# Altium integrated library TI Power Management Supervisor and Reset IC.IntLib: 819 symbols (part 4 of 30)
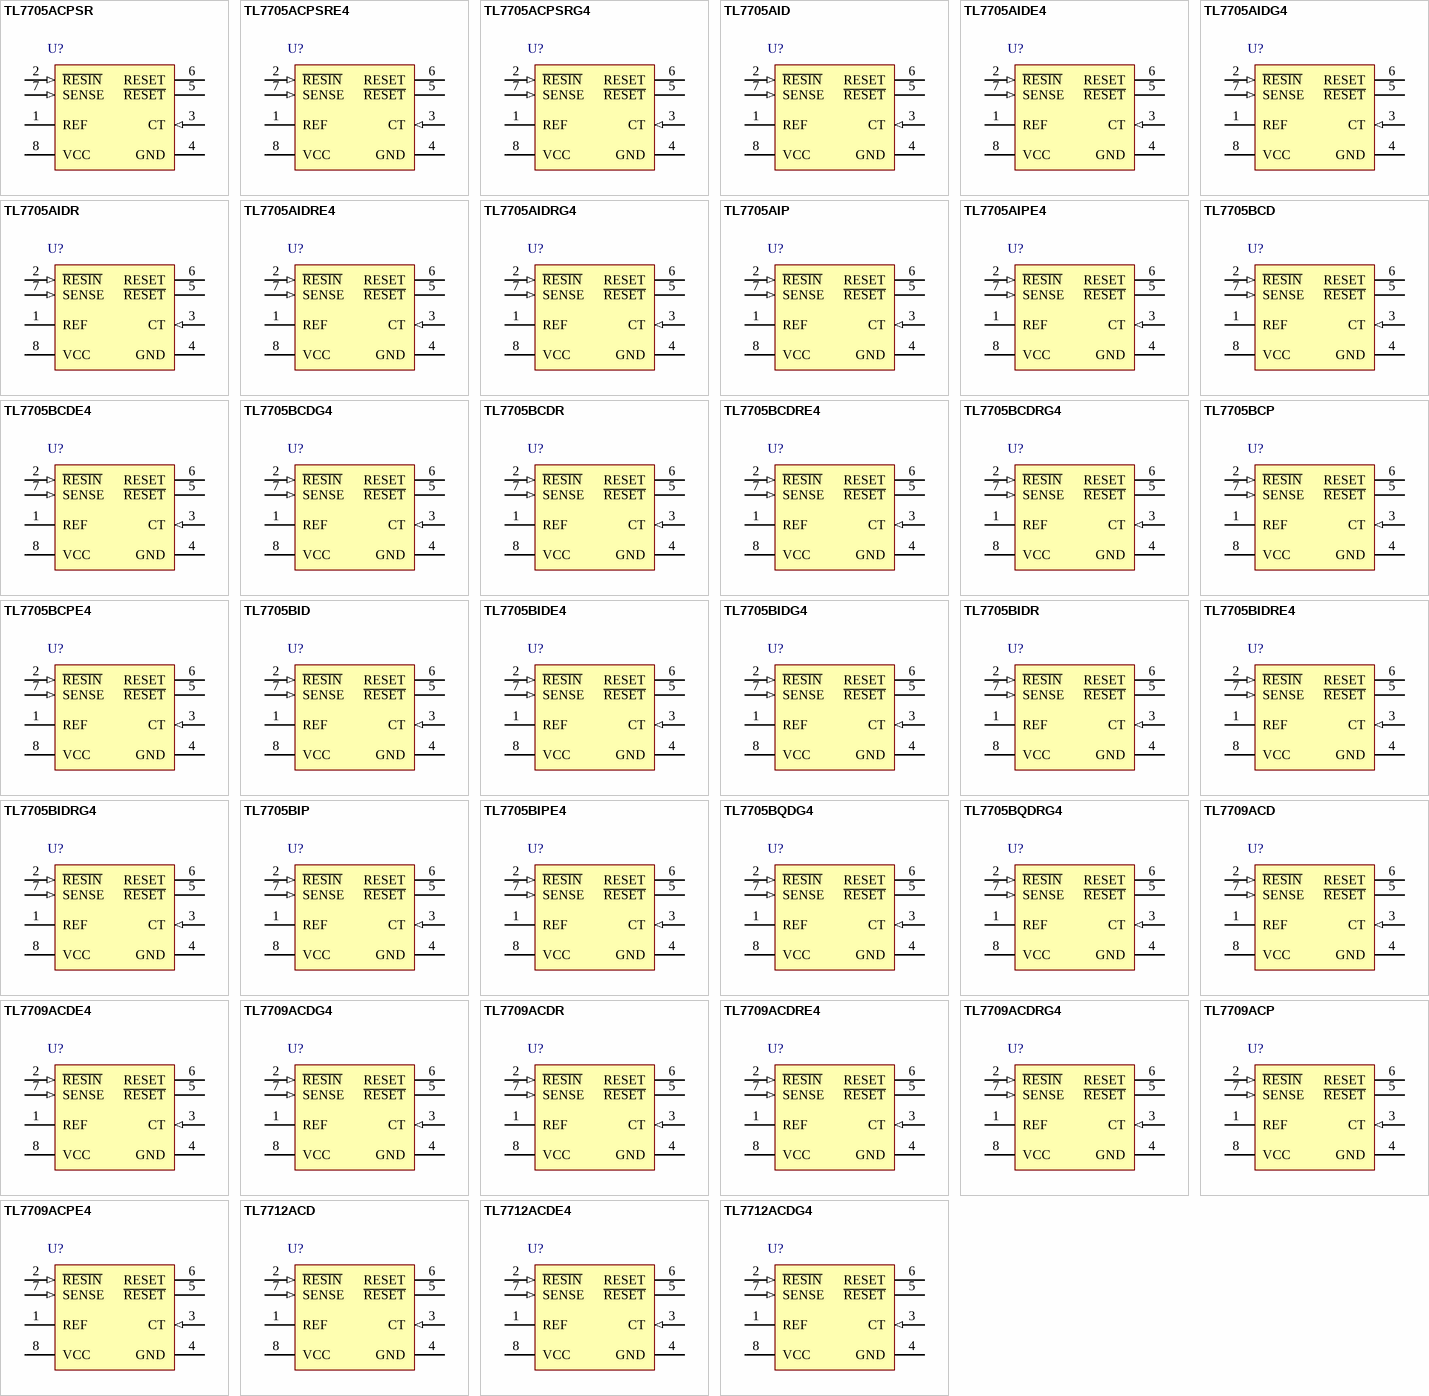
[diagram p24: symbols TL7705ACPSR to TL7712ACDG4]

## TL7705BIDR
designator U?
Single Supply Voltage Supervisor for 5 V Systems with Programmable Time Delay, 1 Supply Monitored, -40 to 85 degC, 8-pin SOIC (D), Green (RoHS & no Sb/Br); Manufacturer: Texas Instruments; PartNumber: TL7705BIDR; # of supplies monitored: 1; Iq(Typ)(uA): 1800; Output Driver Type / Reset Output: Active-low, Open-drain, Active-high, Open-drain; Rating: Military; Reset Threshold Accuracy(%): 2.2; SubFamily: Supervisor and Reset IC; Threshold Voltage 1 (typ)(Typ)(V): 4.55; VCC(Max)(V): 18; VCC(Min)(V): 3.6; DatasheetVersion: SLVS037M; PackageVersion: revM, Jun-2011; PackageReference: D8; PackageDescription: 8-Pin Plastic Small Outline Integrated Circuit, 4.9 x 3.9 mm, Pitch 1.27 mm Pitch; Supplier 1: Digi-Key; Supplier Part Number 1: 296-15020-2-ND; Supplier 2: Digi-Key; Supplier Part Number 2: 296-15020-1-ND; Supplier 3: Digi-Key; Supplier Part Number 3: 296-15020-6-ND; Supplier 4: Newark; Supplier Part Number 4: 76C9356; Supplier 5: Mouser; Supplier Part Number 5: 595-TL7705BIDR; Time Delay(ms): Programmable; Mounting Technology: Surface Mount; Code_JEDEC: MS-012AA; ComponentLink1Description: Datasheet; ComponentLink1URL: http://www.ti.com/general/docs/lit/getliterature.tsp?genericPartNumber=TL7705B&fileType=pdf
footprint D8_N (SOIC, 8-Leads, Body 4.9x3.9mm, Pitch 1.27mm, IPC Medium Density)
footprint D8_L (SOIC, 8-Leads, Body 4.9x3.9mm, Pitch 1.27mm, IPC High Density)
footprint D8_M (SOIC, 8-Leads, Body 4.9x3.9mm, Pitch 1.27mm, IPC Low Density)
pins: 1 REF, 2 ~{RESIN} (in), 3 CT (in), 4 GND (power), 5 ~{RESET} (oc), 6 RESET (oe), 7 SENSE (in), 8 VCC (power)

## TL7705BIDRE4
designator U?
Single Supply Voltage Supervisor for 5 V Systems with Programmable Time Delay, 1 Supply Monitored, -40 to 85 degC, 8-pin SOIC (D), Green (RoHS & no Sb/Br); Manufacturer: Texas Instruments; PartNumber: TL7705BIDRE4; # of supplies monitored: 1; Iq(Typ)(uA): 1800; Output Driver Type / Reset Output: Active-low, Open-drain, Active-high, Open-drain; Rating: Military; Reset Threshold Accuracy(%): 2.2; SubFamily: Supervisor and Reset IC; Threshold Voltage 1 (typ)(Typ)(V): 4.55; VCC(Max)(V): 18; VCC(Min)(V): 3.6; DatasheetVersion: SLVS037M; PackageVersion: revM, Jun-2011; PackageReference: D8; PackageDescription: 8-Pin Plastic Small Outline Integrated Circuit, 4.9 x 3.9 mm, Pitch 1.27 mm Pitch; Supplier 1: Digi-Key; Supplier Part Number 1: TL7705BIDRE4-ND; Supplier 2: Newark; Supplier Part Number 2: 37K4590; Supplier 3: Mouser; Supplier Part Number 3: 595-TL7705BIDRE4; Time Delay(ms): Programmable; Mounting Technology: Surface Mount; Code_JEDEC: MS-012AA; ComponentLink1Description: Datasheet; ComponentLink1URL: http://www.ti.com/general/docs/lit/getliterature.tsp?genericPartNumber=TL7705B&fileType=pdf
footprint D8_N (SOIC, 8-Leads, Body 4.9x3.9mm, Pitch 1.27mm, IPC Medium Density)
footprint D8_L (SOIC, 8-Leads, Body 4.9x3.9mm, Pitch 1.27mm, IPC High Density)
footprint D8_M (SOIC, 8-Leads, Body 4.9x3.9mm, Pitch 1.27mm, IPC Low Density)
pins: 1 REF, 2 ~{RESIN} (in), 3 CT (in), 4 GND (power), 5 ~{RESET} (oc), 6 RESET (oe), 7 SENSE (in), 8 VCC (power)

## TL7705BIDRG4
designator U?
Single Supply Voltage Supervisor for 5 V Systems with Programmable Time Delay, 1 Supply Monitored, -40 to 85 degC, 8-pin SOIC (D), Green (RoHS & no Sb/Br); Manufacturer: Texas Instruments; PartNumber: TL7705BIDRG4; # of supplies monitored: 1; Iq(Typ)(uA): 1800; Output Driver Type / Reset Output: Active-low, Open-drain, Active-high, Open-drain; Rating: Military; Reset Threshold Accuracy(%): 2.2; SubFamily: Supervisor and Reset IC; Threshold Voltage 1 (typ)(Typ)(V): 4.55; VCC(Max)(V): 18; VCC(Min)(V): 3.6; DatasheetVersion: SLVS037M; PackageVersion: revM, Jun-2011; PackageReference: D8; PackageDescription: 8-Pin Plastic Small Outline Integrated Circuit, 4.9 x 3.9 mm, Pitch 1.27 mm Pitch; Supplier 1: Digi-Key; Supplier Part Number 1: TL7705BIDRG4-ND; Supplier 2: Newark; Supplier Part Number 2: 41M5799; Supplier 3: Mouser; Supplier Part Number 3: 595-TL7705BIDRG4; Time Delay(ms): Programmable; Mounting Technology: Surface Mount; Code_JEDEC: MS-012AA; ComponentLink1Description: Datasheet; ComponentLink1URL: http://www.ti.com/general/docs/lit/getliterature.tsp?genericPartNumber=TL7705B&fileType=pdf
footprint D8_N (SOIC, 8-Leads, Body 4.9x3.9mm, Pitch 1.27mm, IPC Medium Density)
footprint D8_L (SOIC, 8-Leads, Body 4.9x3.9mm, Pitch 1.27mm, IPC High Density)
footprint D8_M (SOIC, 8-Leads, Body 4.9x3.9mm, Pitch 1.27mm, IPC Low Density)
pins: 1 REF, 2 ~{RESIN} (in), 3 CT (in), 4 GND (power), 5 ~{RESET} (oc), 6 RESET (oe), 7 SENSE (in), 8 VCC (power)

## TL7705BIP
designator U?
Single Supply Voltage Supervisor for 5 V Systems with Programmable Time Delay, 1 Supply Monitored, -40 to 85 degC, 8-pin PDIP (P), Pb-Free (RoHS); Manufacturer: Texas Instruments; PartNumber: TL7705BIP; # of supplies monitored: 1; Iq(Typ)(uA): 1800; Output Driver Type / Reset Output: Active-low, Open-drain, Active-high, Open-drain; Rating: Military; Reset Threshold Accuracy(%): 2.2; SubFamily: Supervisor and Reset IC; Threshold Voltage 1 (typ)(Typ)(V): 4.55; VCC(Max)(V): 18; VCC(Min)(V): 3.6; DatasheetVersion: SLVS037M; PackageVersion: revE, Apr-2010; PackageReference: P8; PackageDescription: 8-Pin Plastic Dual-In-Line Package, Row Spacing 7.62 mm, Pitch 2.54 mm; Supplier 1: Digi-Key; Supplier Part Number 1: 296-3244-5-ND; Supplier 2: Newark; Supplier Part Number 2: 52F2764; Supplier 3: Mouser; Supplier Part Number 3: 595-TL7705BIP; Time Delay(ms): Programmable; Mounting Technology: Through Hole; Code_JEDEC: MS-001-BA; ComponentLink1Description: Datasheet; ComponentLink1URL: http://www.ti.com/general/docs/lit/getliterature.tsp?genericPartNumber=TL7705B&fileType=pdf
footprint P8 (DIP, 8-Leads, Row Spacing 7.62mm, Pitch 2.54mm, Body 9.6x6.4mm)
pins: 1 REF, 2 ~{RESIN} (in), 3 CT (in), 4 GND (power), 5 ~{RESET} (oc), 6 RESET (oe), 7 SENSE (in), 8 VCC (power)

## TL7705BIPE4
designator U?
Single Supply Voltage Supervisor for 5 V Systems with Programmable Time Delay, 1 Supply Monitored, -40 to 85 degC, 8-pin PDIP (P), Pb-Free (RoHS); Manufacturer: Texas Instruments; PartNumber: TL7705BIPE4; # of supplies monitored: 1; Iq(Typ)(uA): 1800; Output Driver Type / Reset Output: Active-low, Open-drain, Active-high, Open-drain; Rating: Military; Reset Threshold Accuracy(%): 2.2; SubFamily: Supervisor and Reset IC; Threshold Voltage 1 (typ)(Typ)(V): 4.55; VCC(Max)(V): 18; VCC(Min)(V): 3.6; DatasheetVersion: SLVS037M; PackageVersion: revE, Apr-2010; PackageReference: P8; PackageDescription: 8-Pin Plastic Dual-In-Line Package, Row Spacing 7.62 mm, Pitch 2.54 mm; Supplier 1: Digi-Key; Supplier Part Number 1: TL7705BIPE4-ND; Supplier 2: Newark; Supplier Part Number 2: 37K4591; Supplier 3: Mouser; Supplier Part Number 3: 595-TL7705BIPE4; Time Delay(ms): Programmable; Mounting Technology: Through Hole; Code_JEDEC: MS-001-BA; ComponentLink1Description: Datasheet; ComponentLink1URL: http://www.ti.com/general/docs/lit/getliterature.tsp?genericPartNumber=TL7705B&fileType=pdf
footprint P8 (DIP, 8-Leads, Row Spacing 7.62mm, Pitch 2.54mm, Body 9.6x6.4mm)
pins: 1 REF, 2 ~{RESIN} (in), 3 CT (in), 4 GND (power), 5 ~{RESET} (oc), 6 RESET (oe), 7 SENSE (in), 8 VCC (power)

## TL7705BQDG4
designator U?
Single Supply Voltage Supervisor for 5 V Systems with Programmable Time Delay, 1 Supply Monitored, 8-pin SOIC (D), Green (RoHS & no Sb/Br); Manufacturer: Texas Instruments; PartNumber: TL7705BQDG4; # of supplies monitored: 1; Iq(Typ)(uA): 1800; Output Driver Type / Reset Output: Active-low, Open-drain, Active-high, Open-drain; Rating: Military; Reset Threshold Accuracy(%): 2.2; SubFamily: Supervisor and Reset IC; Threshold Voltage 1 (typ)(Typ)(V): 4.55; VCC(Max)(V): 18; VCC(Min)(V): 3.6; DatasheetVersion: SLVS037M; PackageVersion: revM, Jun-2011; PackageReference: D8; PackageDescription: 8-Pin Plastic Small Outline Integrated Circuit, 4.9 x 3.9 mm, Pitch 1.27 mm Pitch; Supplier 1: Digi-Key; Supplier Part Number 1: TL7705BQDG4-ND; Supplier 2: Newark; Supplier Part Number 2: 54M7385; Supplier 3: Mouser; Supplier Part Number 3: 595-TL7705BQDG4; Time Delay(ms): Programmable; Mounting Technology: Surface Mount; Code_JEDEC: MS-012AA; ComponentLink1Description: Datasheet; ComponentLink1URL: http://www.ti.com/general/docs/lit/getliterature.tsp?genericPartNumber=TL7705B&fileType=pdf
footprint D8_N (SOIC, 8-Leads, Body 4.9x3.9mm, Pitch 1.27mm, IPC Medium Density)
footprint D8_L (SOIC, 8-Leads, Body 4.9x3.9mm, Pitch 1.27mm, IPC High Density)
footprint D8_M (SOIC, 8-Leads, Body 4.9x3.9mm, Pitch 1.27mm, IPC Low Density)
pins: 1 REF, 2 ~{RESIN} (in), 3 CT (in), 4 GND (power), 5 ~{RESET} (oc), 6 RESET (oe), 7 SENSE (in), 8 VCC (power)

## TL7705BQDRG4
designator U?
Single Supply Voltage Supervisor for 5 V Systems with Programmable Time Delay, 1 Supply Monitored, 8-pin SOIC (D), Green (RoHS & no Sb/Br); Manufacturer: Texas Instruments; PartNumber: TL7705BQDRG4; # of supplies monitored: 1; Iq(Typ)(uA): 1800; Output Driver Type / Reset Output: Active-low, Open-drain, Active-high, Open-drain; Rating: Military; Reset Threshold Accuracy(%): 2.2; SubFamily: Supervisor and Reset IC; Threshold Voltage 1 (typ)(Typ)(V): 4.55; VCC(Max)(V): 18; VCC(Min)(V): 3.6; DatasheetVersion: SLVS037M; PackageVersion: revM, Jun-2011; PackageReference: D8; PackageDescription: 8-Pin Plastic Small Outline Integrated Circuit, 4.9 x 3.9 mm, Pitch 1.27 mm Pitch; Supplier 1: Digi-Key; Supplier Part Number 1: TL7705BQDRG4-ND; Supplier 2: Newark; Supplier Part Number 2: 54M7386; Supplier 3: Mouser; Supplier Part Number 3: 595-TL7705BQDRG4; Time Delay(ms): Programmable; Mounting Technology: Surface Mount; Code_JEDEC: MS-012AA; ComponentLink1Description: Datasheet; ComponentLink1URL: http://www.ti.com/general/docs/lit/getliterature.tsp?genericPartNumber=TL7705B&fileType=pdf
footprint D8_N (SOIC, 8-Leads, Body 4.9x3.9mm, Pitch 1.27mm, IPC Medium Density)
footprint D8_L (SOIC, 8-Leads, Body 4.9x3.9mm, Pitch 1.27mm, IPC High Density)
footprint D8_M (SOIC, 8-Leads, Body 4.9x3.9mm, Pitch 1.27mm, IPC Low Density)
pins: 1 REF, 2 ~{RESIN} (in), 3 CT (in), 4 GND (power), 5 ~{RESET} (oc), 6 RESET (oe), 7 SENSE (in), 8 VCC (power)

## TL7709ACD
designator U?
Single Supply Voltage Supervisor for 9 V Systems with Programmable Time Delay, 1 Supply Monitored, 0 to 70 degC, 8-pin SOIC (D), Green (RoHS & no Sb/Br); Manufacturer: Texas Instruments; PartNumber: TL7709ACD; # of supplies monitored: 1; Iq(Typ)(uA): 1800; Output Driver Type / Reset Output: Active-low, Open-drain, Active-high, Open-drain; Rating: Catalog; Reset Threshold Accuracy(%): 1.3; SubFamily: Supervisor and Reset IC; Threshold Voltage 1 (typ)(Typ)(V): 7.6; VCC(Max)(V): 18; VCC(Min)(V): 3.5; DatasheetVersion: SLVS028I; PackageVersion: revM, Jun-2011; PackageReference: D8; PackageDescription: 8-Pin Plastic Small Outline Integrated Circuit, 4.9 x 3.9 mm, Pitch 1.27 mm Pitch; Supplier 1: Digi-Key; Supplier Part Number 1: 296-3247-5-ND; Supplier 2: Newark; Supplier Part Number 2: 76C9358; Supplier 3: Mouser; Supplier Part Number 3: 595-TL7709ACD; Time Delay(ms): Programmable; Mounting Technology: Surface Mount; Code_JEDEC: MS-012AA; ComponentLink1Description: Datasheet; ComponentLink1URL: http://www.ti.com/general/docs/lit/getliterature.tsp?genericPartNumber=TL7709A&fileType=pdf
footprint D8_N (SOIC, 8-Leads, Body 4.9x3.9mm, Pitch 1.27mm, IPC Medium Density)
footprint D8_L (SOIC, 8-Leads, Body 4.9x3.9mm, Pitch 1.27mm, IPC High Density)
footprint D8_M (SOIC, 8-Leads, Body 4.9x3.9mm, Pitch 1.27mm, IPC Low Density)
pins: 1 REF, 2 ~{RESIN} (in), 3 CT (in), 4 GND (power), 5 ~{RESET} (oc), 6 RESET (oe), 7 SENSE (in), 8 VCC (power)

## TL7709ACDE4
designator U?
Single Supply Voltage Supervisor for 9 V Systems with Programmable Time Delay, 1 Supply Monitored, 0 to 70 degC, 8-pin SOIC (D), Green (RoHS & no Sb/Br); Manufacturer: Texas Instruments; PartNumber: TL7709ACDE4; # of supplies monitored: 1; Iq(Typ)(uA): 1800; Output Driver Type / Reset Output: Active-low, Open-drain, Active-high, Open-drain; Rating: Catalog; Reset Threshold Accuracy(%): 1.3; SubFamily: Supervisor and Reset IC; Threshold Voltage 1 (typ)(Typ)(V): 7.6; VCC(Max)(V): 18; VCC(Min)(V): 3.5; DatasheetVersion: SLVS028I; PackageVersion: revM, Jun-2011; PackageReference: D8; PackageDescription: 8-Pin Plastic Small Outline Integrated Circuit, 4.9 x 3.9 mm, Pitch 1.27 mm Pitch; Supplier 1: Digi-Key; Supplier Part Number 1: TL7709ACDE4-ND; Supplier 2: Newark; Supplier Part Number 2: 37K4592; Supplier 3: Mouser; Supplier Part Number 3: 595-TL7709ACDE4; Time Delay(ms): Programmable; Mounting Technology: Surface Mount; Code_JEDEC: MS-012AA; ComponentLink1Description: Datasheet; ComponentLink1URL: http://www.ti.com/general/docs/lit/getliterature.tsp?genericPartNumber=TL7709A&fileType=pdf
footprint D8_N (SOIC, 8-Leads, Body 4.9x3.9mm, Pitch 1.27mm, IPC Medium Density)
footprint D8_L (SOIC, 8-Leads, Body 4.9x3.9mm, Pitch 1.27mm, IPC High Density)
footprint D8_M (SOIC, 8-Leads, Body 4.9x3.9mm, Pitch 1.27mm, IPC Low Density)
pins: 1 REF, 2 ~{RESIN} (in), 3 CT (in), 4 GND (power), 5 ~{RESET} (oc), 6 RESET (oe), 7 SENSE (in), 8 VCC (power)

## TL7709ACDG4
designator U?
Single Supply Voltage Supervisor for 9 V Systems with Programmable Time Delay, 1 Supply Monitored, 0 to 70 degC, 8-pin SOIC (D), Green (RoHS & no Sb/Br); Manufacturer: Texas Instruments; PartNumber: TL7709ACDG4; # of supplies monitored: 1; Iq(Typ)(uA): 1800; Output Driver Type / Reset Output: Active-low, Open-drain, Active-high, Open-drain; Rating: Catalog; Reset Threshold Accuracy(%): 1.3; SubFamily: Supervisor and Reset IC; Threshold Voltage 1 (typ)(Typ)(V): 7.6; VCC(Max)(V): 18; VCC(Min)(V): 3.5; DatasheetVersion: SLVS028I; PackageVersion: revM, Jun-2011; PackageReference: D8; PackageDescription: 8-Pin Plastic Small Outline Integrated Circuit, 4.9 x 3.9 mm, Pitch 1.27 mm Pitch; Supplier 1: Digi-Key; Supplier Part Number 1: TL7709ACDG4-ND; Supplier 2: Newark; Supplier Part Number 2: 41M5800; Supplier 3: Mouser; Supplier Part Number 3: 595-TL7709ACDG4; Time Delay(ms): Programmable; Mounting Technology: Surface Mount; Code_JEDEC: MS-012AA; ComponentLink1Description: Datasheet; ComponentLink1URL: http://www.ti.com/general/docs/lit/getliterature.tsp?genericPartNumber=TL7709A&fileType=pdf
footprint D8_N (SOIC, 8-Leads, Body 4.9x3.9mm, Pitch 1.27mm, IPC Medium Density)
footprint D8_L (SOIC, 8-Leads, Body 4.9x3.9mm, Pitch 1.27mm, IPC High Density)
footprint D8_M (SOIC, 8-Leads, Body 4.9x3.9mm, Pitch 1.27mm, IPC Low Density)
pins: 1 REF, 2 ~{RESIN} (in), 3 CT (in), 4 GND (power), 5 ~{RESET} (oc), 6 RESET (oe), 7 SENSE (in), 8 VCC (power)

## TL7709ACDR
designator U?
Single Supply Voltage Supervisor for 9 V Systems with Programmable Time Delay, 1 Supply Monitored, 0 to 70 degC, 8-pin SOIC (D), Green (RoHS & no Sb/Br); Manufacturer: Texas Instruments; PartNumber: TL7709ACDR; # of supplies monitored: 1; Iq(Typ)(uA): 1800; Output Driver Type / Reset Output: Active-low, Open-drain, Active-high, Open-drain; Rating: Catalog; Reset Threshold Accuracy(%): 1.3; SubFamily: Supervisor and Reset IC; Threshold Voltage 1 (typ)(Typ)(V): 7.6; VCC(Max)(V): 18; VCC(Min)(V): 3.5; DatasheetVersion: SLVS028I; PackageVersion: revM, Jun-2011; PackageReference: D8; PackageDescription: 8-Pin Plastic Small Outline Integrated Circuit, 4.9 x 3.9 mm, Pitch 1.27 mm Pitch; Supplier 1: Digi-Key; Supplier Part Number 1: TL7709ACDR-ND; Supplier 2: Newark; Supplier Part Number 2: 76C9359; Supplier 3: Mouser; Supplier Part Number 3: 595-TL7709ACDR; Time Delay(ms): Programmable; Mounting Technology: Surface Mount; Code_JEDEC: MS-012AA; ComponentLink1Description: Datasheet; ComponentLink1URL: http://www.ti.com/general/docs/lit/getliterature.tsp?genericPartNumber=TL7709A&fileType=pdf
footprint D8_N (SOIC, 8-Leads, Body 4.9x3.9mm, Pitch 1.27mm, IPC Medium Density)
footprint D8_L (SOIC, 8-Leads, Body 4.9x3.9mm, Pitch 1.27mm, IPC High Density)
footprint D8_M (SOIC, 8-Leads, Body 4.9x3.9mm, Pitch 1.27mm, IPC Low Density)
pins: 1 REF, 2 ~{RESIN} (in), 3 CT (in), 4 GND (power), 5 ~{RESET} (oc), 6 RESET (oe), 7 SENSE (in), 8 VCC (power)

## TL7709ACDRE4
designator U?
Single Supply Voltage Supervisor for 9 V Systems with Programmable Time Delay, 1 Supply Monitored, 0 to 70 degC, 8-pin SOIC (D), Green (RoHS & no Sb/Br); Manufacturer: Texas Instruments; PartNumber: TL7709ACDRE4; # of supplies monitored: 1; Iq(Typ)(uA): 1800; Output Driver Type / Reset Output: Active-low, Open-drain, Active-high, Open-drain; Rating: Catalog; Reset Threshold Accuracy(%): 1.3; SubFamily: Supervisor and Reset IC; Threshold Voltage 1 (typ)(Typ)(V): 7.6; VCC(Max)(V): 18; VCC(Min)(V): 3.5; DatasheetVersion: SLVS028I; PackageVersion: revM, Jun-2011; PackageReference: D8; PackageDescription: 8-Pin Plastic Small Outline Integrated Circuit, 4.9 x 3.9 mm, Pitch 1.27 mm Pitch; Supplier 1: Digi-Key; Supplier Part Number 1: TL7709ACDRE4-ND; Supplier 2: Newark; Supplier Part Number 2: 37K4593; Supplier 3: Mouser; Supplier Part Number 3: 595-TL7709ACDRE4; Time Delay(ms): Programmable; Mounting Technology: Surface Mount; Code_JEDEC: MS-012AA; ComponentLink1Description: Datasheet; ComponentLink1URL: http://www.ti.com/general/docs/lit/getliterature.tsp?genericPartNumber=TL7709A&fileType=pdf
footprint D8_N (SOIC, 8-Leads, Body 4.9x3.9mm, Pitch 1.27mm, IPC Medium Density)
footprint D8_L (SOIC, 8-Leads, Body 4.9x3.9mm, Pitch 1.27mm, IPC High Density)
footprint D8_M (SOIC, 8-Leads, Body 4.9x3.9mm, Pitch 1.27mm, IPC Low Density)
pins: 1 REF, 2 ~{RESIN} (in), 3 CT (in), 4 GND (power), 5 ~{RESET} (oc), 6 RESET (oe), 7 SENSE (in), 8 VCC (power)

## TL7709ACDRG4
designator U?
Single Supply Voltage Supervisor for 9 V Systems with Programmable Time Delay, 1 Supply Monitored, 0 to 70 degC, 8-pin SOIC (D), Green (RoHS & no Sb/Br); Manufacturer: Texas Instruments; PartNumber: TL7709ACDRG4; # of supplies monitored: 1; Iq(Typ)(uA): 1800; Output Driver Type / Reset Output: Active-low, Open-drain, Active-high, Open-drain; Rating: Catalog; Reset Threshold Accuracy(%): 1.3; SubFamily: Supervisor and Reset IC; Threshold Voltage 1 (typ)(Typ)(V): 7.6; VCC(Max)(V): 18; VCC(Min)(V): 3.5; DatasheetVersion: SLVS028I; PackageVersion: revM, Jun-2011; PackageReference: D8; PackageDescription: 8-Pin Plastic Small Outline Integrated Circuit, 4.9 x 3.9 mm, Pitch 1.27 mm Pitch; Supplier 1: Digi-Key; Supplier Part Number 1: TL7709ACDRG4-ND; Supplier 2: Newark; Supplier Part Number 2: 41M5801; Supplier 3: Mouser; Supplier Part Number 3: 595-TL7709ACDRG4; Time Delay(ms): Programmable; Mounting Technology: Surface Mount; Code_JEDEC: MS-012AA; ComponentLink1Description: Datasheet; ComponentLink1URL: http://www.ti.com/general/docs/lit/getliterature.tsp?genericPartNumber=TL7709A&fileType=pdf
footprint D8_N (SOIC, 8-Leads, Body 4.9x3.9mm, Pitch 1.27mm, IPC Medium Density)
footprint D8_L (SOIC, 8-Leads, Body 4.9x3.9mm, Pitch 1.27mm, IPC High Density)
footprint D8_M (SOIC, 8-Leads, Body 4.9x3.9mm, Pitch 1.27mm, IPC Low Density)
pins: 1 REF, 2 ~{RESIN} (in), 3 CT (in), 4 GND (power), 5 ~{RESET} (oc), 6 RESET (oe), 7 SENSE (in), 8 VCC (power)

## TL7709ACP
designator U?
Single Supply Voltage Supervisor for 9 V Systems with Programmable Time Delay, 1 Supply Monitored, 0 to 70 degC, 8-pin PDIP (P), Pb-Free (RoHS); Manufacturer: Texas Instruments; PartNumber: TL7709ACP; # of supplies monitored: 1; Iq(Typ)(uA): 1800; Output Driver Type / Reset Output: Active-low, Open-drain, Active-high, Open-drain; Rating: Catalog; Reset Threshold Accuracy(%): 1.3; SubFamily: Supervisor and Reset IC; Threshold Voltage 1 (typ)(Typ)(V): 7.6; VCC(Max)(V): 18; VCC(Min)(V): 3.5; DatasheetVersion: SLVS028I; PackageVersion: revE, Apr-2010; PackageReference: P8; PackageDescription: 8-Pin Plastic Dual-In-Line Package, Row Spacing 7.62 mm, Pitch 2.54 mm; Supplier 1: Digi-Key; Supplier Part Number 1: 296-3248-5-ND; Supplier 2: Newark; Supplier Part Number 2: 08F9509; Supplier 3: Mouser; Supplier Part Number 3: 595-TL7709ACP; Time Delay(ms): Programmable; Mounting Technology: Through Hole; Code_JEDEC: MS-001-BA; ComponentLink1Description: Datasheet; ComponentLink1URL: http://www.ti.com/general/docs/lit/getliterature.tsp?genericPartNumber=TL7709A&fileType=pdf
footprint P8 (DIP, 8-Leads, Row Spacing 7.62mm, Pitch 2.54mm, Body 9.6x6.4mm)
pins: 1 REF, 2 ~{RESIN} (in), 3 CT (in), 4 GND (power), 5 ~{RESET} (oc), 6 RESET (oe), 7 SENSE (in), 8 VCC (power)

## TL7709ACPE4
designator U?
Single Supply Voltage Supervisor for 9 V Systems with Programmable Time Delay, 1 Supply Monitored, 0 to 70 degC, 8-pin PDIP (P), Pb-Free (RoHS); Manufacturer: Texas Instruments; PartNumber: TL7709ACPE4; # of supplies monitored: 1; Iq(Typ)(uA): 1800; Output Driver Type / Reset Output: Active-low, Open-drain, Active-high, Open-drain; Rating: Catalog; Reset Threshold Accuracy(%): 1.3; SubFamily: Supervisor and Reset IC; Threshold Voltage 1 (typ)(Typ)(V): 7.6; VCC(Max)(V): 18; VCC(Min)(V): 3.5; DatasheetVersion: SLVS028I; PackageVersion: revE, Apr-2010; PackageReference: P8; PackageDescription: 8-Pin Plastic Dual-In-Line Package, Row Spacing 7.62 mm, Pitch 2.54 mm; Supplier 1: Digi-Key; Supplier Part Number 1: TL7709ACPE4-ND; Supplier 2: Newark; Supplier Part Number 2: 63K6536; Supplier 3: Mouser; Supplier Part Number 3: 595-TL7709ACPE4; Time Delay(ms): Programmable; Mounting Technology: Through Hole; Code_JEDEC: MS-001-BA; ComponentLink1Description: Datasheet; ComponentLink1URL: http://www.ti.com/general/docs/lit/getliterature.tsp?genericPartNumber=TL7709A&fileType=pdf
footprint P8 (DIP, 8-Leads, Row Spacing 7.62mm, Pitch 2.54mm, Body 9.6x6.4mm)
pins: 1 REF, 2 ~{RESIN} (in), 3 CT (in), 4 GND (power), 5 ~{RESET} (oc), 6 RESET (oe), 7 SENSE (in), 8 VCC (power)

## TL7712ACD
designator U?
Single Supply Voltage Supervisor for 12 V Systems with Programmable Time Delay, 1 Supply Monitored, 0 to 70 degC, 8-pin SOIC (D), Green (RoHS & no Sb/Br); Manufacturer: Texas Instruments; PartNumber: TL7712ACD; # of supplies monitored: 1; Iq(Typ)(uA): 1800; Output Driver Type / Reset Output: Active-low, Open-drain, Active-high, Open-drain; Rating: Catalog; Reset Threshold Accuracy(%): 1.9; SubFamily: Supervisor and Reset IC; Threshold Voltage 1 (typ)(Typ)(V): 10.8; VCC(Max)(V): 18; VCC(Min)(V): 3.5; DatasheetVersion: SLVS028I; PackageVersion: revM, Jun-2011; PackageReference: D8; PackageDescription: 8-Pin Plastic Small Outline Integrated Circuit, 4.9 x 3.9 mm, Pitch 1.27 mm Pitch; Supplier 1: Digi-Key; Supplier Part Number 1: 296-3249-5-ND; Supplier 2: Newark; Supplier Part Number 2: 76C9360; Supplier 3: Mouser; Supplier Part Number 3: 595-TL7712ACD; Time Delay(ms): Programmable; Mounting Technology: Surface Mount; Code_JEDEC: MS-012AA; ComponentLink1Description: Datasheet; ComponentLink1URL: http://www.ti.com/general/docs/lit/getliterature.tsp?genericPartNumber=TL7712A&fileType=pdf
footprint D8_N (SOIC, 8-Leads, Body 4.9x3.9mm, Pitch 1.27mm, IPC Medium Density)
footprint D8_L (SOIC, 8-Leads, Body 4.9x3.9mm, Pitch 1.27mm, IPC High Density)
footprint D8_M (SOIC, 8-Leads, Body 4.9x3.9mm, Pitch 1.27mm, IPC Low Density)
pins: 1 REF, 2 ~{RESIN} (in), 3 CT (in), 4 GND (power), 5 ~{RESET} (oc), 6 RESET (oe), 7 SENSE (in), 8 VCC (power)

## TL7712ACDE4
designator U?
Single Supply Voltage Supervisor for 12 V Systems with Programmable Time Delay, 1 Supply Monitored, 0 to 70 degC, 8-pin SOIC (D), Green (RoHS & no Sb/Br); Manufacturer: Texas Instruments; PartNumber: TL7712ACDE4; # of supplies monitored: 1; Iq(Typ)(uA): 1800; Output Driver Type / Reset Output: Active-low, Open-drain, Active-high, Open-drain; Rating: Catalog; Reset Threshold Accuracy(%): 1.9; SubFamily: Supervisor and Reset IC; Threshold Voltage 1 (typ)(Typ)(V): 10.8; VCC(Max)(V): 18; VCC(Min)(V): 3.5; DatasheetVersion: SLVS028I; PackageVersion: revM, Jun-2011; PackageReference: D8; PackageDescription: 8-Pin Plastic Small Outline Integrated Circuit, 4.9 x 3.9 mm, Pitch 1.27 mm Pitch; Supplier 1: Digi-Key; Supplier Part Number 1: TL7712ACDE4-ND; Supplier 2: Newark; Supplier Part Number 2: 37K4594; Supplier 3: Mouser; Supplier Part Number 3: 595-TL7712ACDE4; Time Delay(ms): Programmable; Mounting Technology: Surface Mount; Code_JEDEC: MS-012AA; ComponentLink1Description: Datasheet; ComponentLink1URL: http://www.ti.com/general/docs/lit/getliterature.tsp?genericPartNumber=TL7712A&fileType=pdf
footprint D8_N (SOIC, 8-Leads, Body 4.9x3.9mm, Pitch 1.27mm, IPC Medium Density)
footprint D8_L (SOIC, 8-Leads, Body 4.9x3.9mm, Pitch 1.27mm, IPC High Density)
footprint D8_M (SOIC, 8-Leads, Body 4.9x3.9mm, Pitch 1.27mm, IPC Low Density)
pins: 1 REF, 2 ~{RESIN} (in), 3 CT (in), 4 GND (power), 5 ~{RESET} (oc), 6 RESET (oe), 7 SENSE (in), 8 VCC (power)

## TL7712ACDG4
designator U?
Single Supply Voltage Supervisor for 12 V Systems with Programmable Time Delay, 1 Supply Monitored, 0 to 70 degC, 8-pin SOIC (D), Green (RoHS & no Sb/Br); Manufacturer: Texas Instruments; PartNumber: TL7712ACDG4; # of supplies monitored: 1; Iq(Typ)(uA): 1800; Output Driver Type / Reset Output: Active-low, Open-drain, Active-high, Open-drain; Rating: Catalog; Reset Threshold Accuracy(%): 1.9; SubFamily: Supervisor and Reset IC; Threshold Voltage 1 (typ)(Typ)(V): 10.8; VCC(Max)(V): 18; VCC(Min)(V): 3.5; DatasheetVersion: SLVS028I; PackageVersion: revM, Jun-2011; PackageReference: D8; PackageDescription: 8-Pin Plastic Small Outline Integrated Circuit, 4.9 x 3.9 mm, Pitch 1.27 mm Pitch; Supplier 1: Digi-Key; Supplier Part Number 1: TL7712ACDG4-ND; Supplier 2: Newark; Supplier Part Number 2: 41M5802; Supplier 3: Mouser; Supplier Part Number 3: 595-TL7712ACDG4; Time Delay(ms): Programmable; Mounting Technology: Surface Mount; Code_JEDEC: MS-012AA; ComponentLink1Description: Datasheet; ComponentLink1URL: http://www.ti.com/general/docs/lit/getliterature.tsp?genericPartNumber=TL7712A&fileType=pdf
footprint D8_N (SOIC, 8-Leads, Body 4.9x3.9mm, Pitch 1.27mm, IPC Medium Density)
footprint D8_L (SOIC, 8-Leads, Body 4.9x3.9mm, Pitch 1.27mm, IPC High Density)
footprint D8_M (SOIC, 8-Leads, Body 4.9x3.9mm, Pitch 1.27mm, IPC Low Density)
pins: 1 REF, 2 ~{RESIN} (in), 3 CT (in), 4 GND (power), 5 ~{RESET} (oc), 6 RESET (oe), 7 SENSE (in), 8 VCC (power)

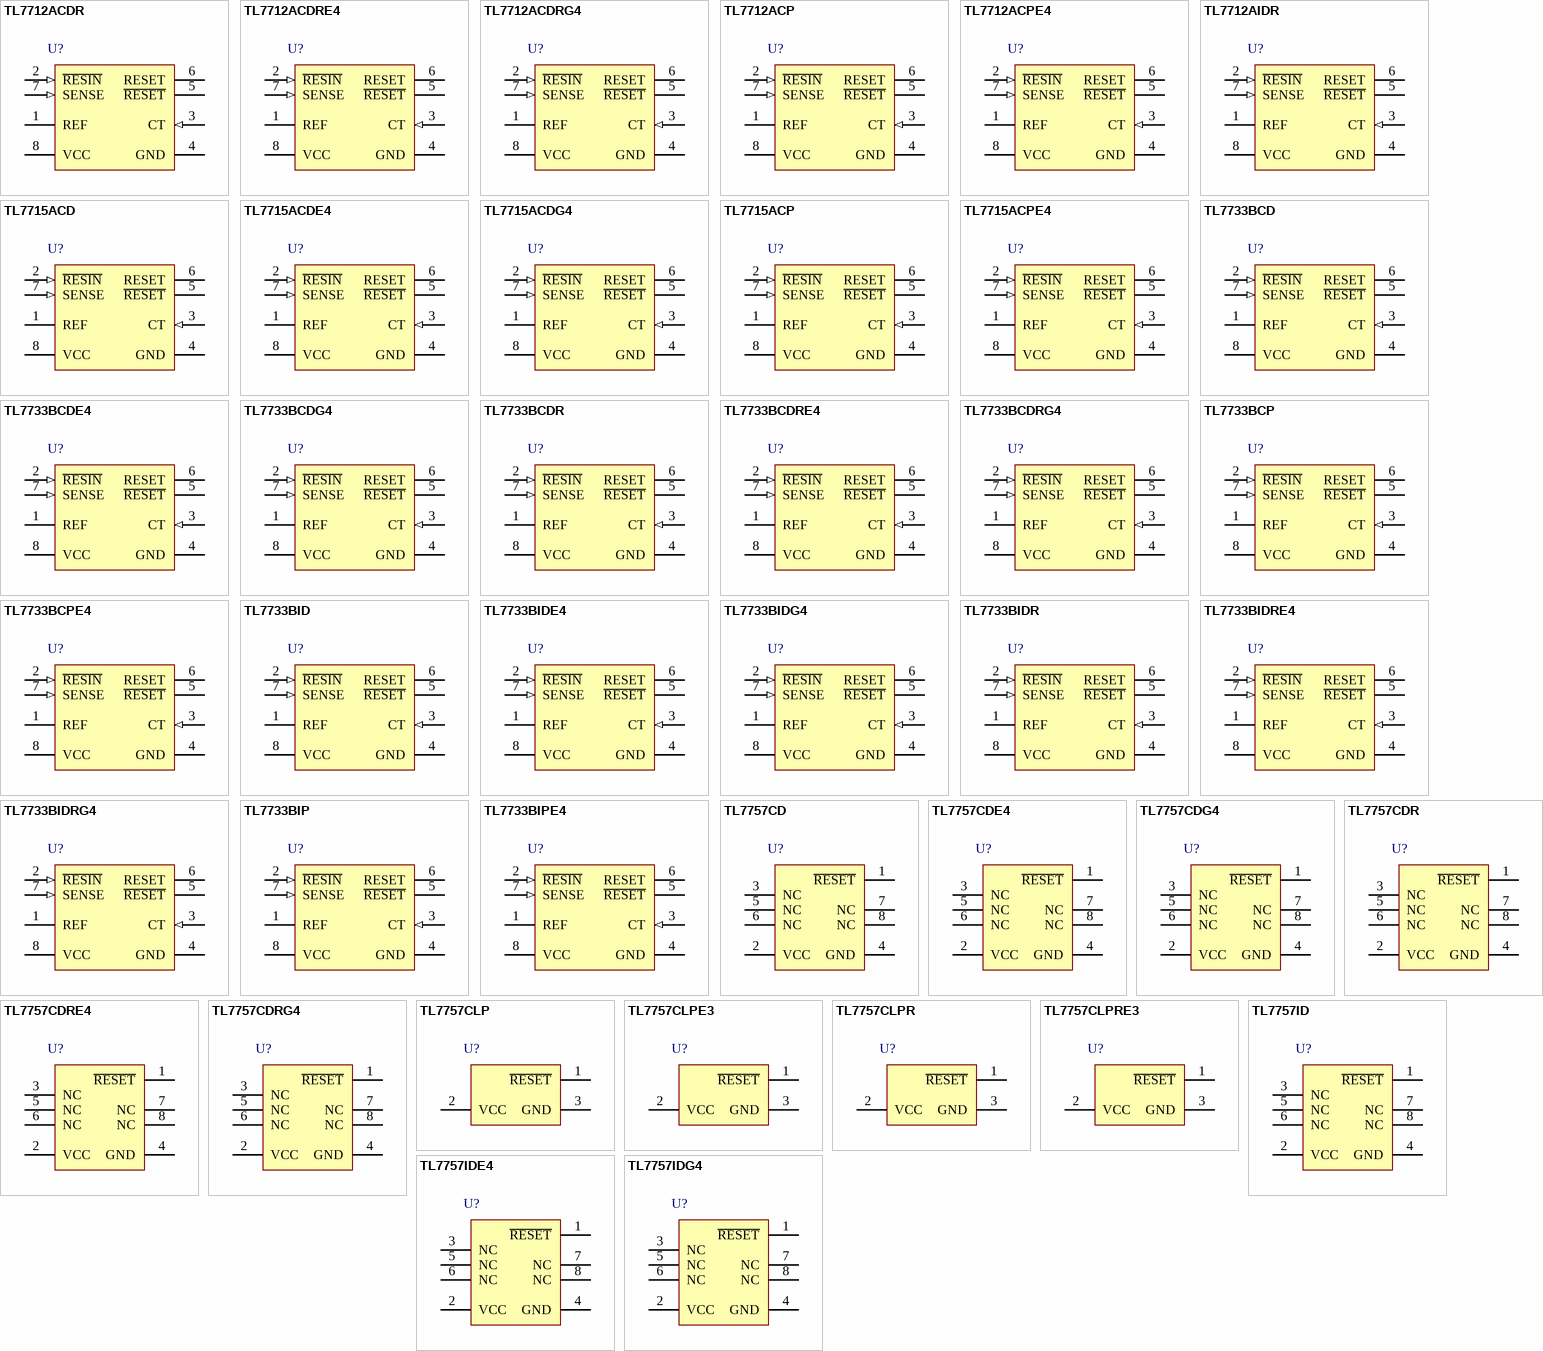
[diagram p3: symbols TL7712ACDR to TL7757IDG4]

## TL7712ACDR
designator U?
Single Supply Voltage Supervisor for 12 V Systems with Programmable Time Delay, 1 Supply Monitored, 0 to 70 degC, 8-pin SOIC (D), Green (RoHS & no Sb/Br); Manufacturer: Texas Instruments; PartNumber: TL7712ACDR; # of supplies monitored: 1; Iq(Typ)(uA): 1800; Output Driver Type / Reset Output: Active-low, Open-drain, Active-high, Open-drain; Rating: Catalog; Reset Threshold Accuracy(%): 1.9; SubFamily: Supervisor and Reset IC; Threshold Voltage 1 (typ)(Typ)(V): 10.8; VCC(Max)(V): 18; VCC(Min)(V): 3.5; DatasheetVersion: SLVS028I; PackageVersion: revM, Jun-2011; PackageReference: D8; PackageDescription: 8-Pin Plastic Small Outline Integrated Circuit, 4.9 x 3.9 mm, Pitch 1.27 mm Pitch; Supplier 1: Digi-Key; Supplier Part Number 1: 296-15021-2-ND; Supplier 2: Digi-Key; Supplier Part Number 2: 296-15021-1-ND; Supplier 3: Digi-Key; Supplier Part Number 3: 296-15021-6-ND; Supplier 4: Newark; Supplier Part Number 4: 76C9361; Supplier 5: Mouser; Supplier Part Number 5: 595-TL7712ACDR; Time Delay(ms): Programmable; Mounting Technology: Surface Mount; Code_JEDEC: MS-012AA; ComponentLink1Description: Datasheet; ComponentLink1URL: http://www.ti.com/general/docs/lit/getliterature.tsp?genericPartNumber=TL7712A&fileType=pdf
footprint D8_N (SOIC, 8-Leads, Body 4.9x3.9mm, Pitch 1.27mm, IPC Medium Density)
footprint D8_L (SOIC, 8-Leads, Body 4.9x3.9mm, Pitch 1.27mm, IPC High Density)
footprint D8_M (SOIC, 8-Leads, Body 4.9x3.9mm, Pitch 1.27mm, IPC Low Density)
pins: 1 REF, 2 ~{RESIN} (in), 3 CT (in), 4 GND (power), 5 ~{RESET} (oc), 6 RESET (oe), 7 SENSE (in), 8 VCC (power)

## TL7712ACDRE4
designator U?
Single Supply Voltage Supervisor for 12 V Systems with Programmable Time Delay, 1 Supply Monitored, 0 to 70 degC, 8-pin SOIC (D), Green (RoHS & no Sb/Br); Manufacturer: Texas Instruments; PartNumber: TL7712ACDRE4; # of supplies monitored: 1; Iq(Typ)(uA): 1800; Output Driver Type / Reset Output: Active-low, Open-drain, Active-high, Open-drain; Rating: Catalog; Reset Threshold Accuracy(%): 1.9; SubFamily: Supervisor and Reset IC; Threshold Voltage 1 (typ)(Typ)(V): 10.8; VCC(Max)(V): 18; VCC(Min)(V): 3.5; DatasheetVersion: SLVS028I; PackageVersion: revM, Jun-2011; PackageReference: D8; PackageDescription: 8-Pin Plastic Small Outline Integrated Circuit, 4.9 x 3.9 mm, Pitch 1.27 mm Pitch; Supplier 1: Digi-Key; Supplier Part Number 1: TL7712ACDRE4-ND; Supplier 2: Newark; Supplier Part Number 2: 37K4595; Supplier 3: Mouser; Supplier Part Number 3: 595-TL7712ACDRE4; Time Delay(ms): Programmable; Mounting Technology: Surface Mount; Code_JEDEC: MS-012AA; ComponentLink1Description: Datasheet; ComponentLink1URL: http://www.ti.com/general/docs/lit/getliterature.tsp?genericPartNumber=TL7712A&fileType=pdf
footprint D8_N (SOIC, 8-Leads, Body 4.9x3.9mm, Pitch 1.27mm, IPC Medium Density)
footprint D8_L (SOIC, 8-Leads, Body 4.9x3.9mm, Pitch 1.27mm, IPC High Density)
footprint D8_M (SOIC, 8-Leads, Body 4.9x3.9mm, Pitch 1.27mm, IPC Low Density)
pins: 1 REF, 2 ~{RESIN} (in), 3 CT (in), 4 GND (power), 5 ~{RESET} (oc), 6 RESET (oe), 7 SENSE (in), 8 VCC (power)

## TL7712ACDRG4
designator U?
Single Supply Voltage Supervisor for 12 V Systems with Programmable Time Delay, 1 Supply Monitored, 0 to 70 degC, 8-pin SOIC (D), Green (RoHS & no Sb/Br); Manufacturer: Texas Instruments; PartNumber: TL7712ACDRG4; # of supplies monitored: 1; Iq(Typ)(uA): 1800; Output Driver Type / Reset Output: Active-low, Open-drain, Active-high, Open-drain; Rating: Catalog; Reset Threshold Accuracy(%): 1.9; SubFamily: Supervisor and Reset IC; Threshold Voltage 1 (typ)(Typ)(V): 10.8; VCC(Max)(V): 18; VCC(Min)(V): 3.5; DatasheetVersion: SLVS028I; PackageVersion: revM, Jun-2011; PackageReference: D8; PackageDescription: 8-Pin Plastic Small Outline Integrated Circuit, 4.9 x 3.9 mm, Pitch 1.27 mm Pitch; Supplier 1: Digi-Key; Supplier Part Number 1: TL7712ACDRG4-ND; Supplier 2: Newark; Supplier Part Number 2: 41M5803; Supplier 3: Mouser; Supplier Part Number 3: 595-TL7712ACDRG4; Time Delay(ms): Programmable; Mounting Technology: Surface Mount; Code_JEDEC: MS-012AA; ComponentLink1Description: Datasheet; ComponentLink1URL: http://www.ti.com/general/docs/lit/getliterature.tsp?genericPartNumber=TL7712A&fileType=pdf
footprint D8_N (SOIC, 8-Leads, Body 4.9x3.9mm, Pitch 1.27mm, IPC Medium Density)
footprint D8_L (SOIC, 8-Leads, Body 4.9x3.9mm, Pitch 1.27mm, IPC High Density)
footprint D8_M (SOIC, 8-Leads, Body 4.9x3.9mm, Pitch 1.27mm, IPC Low Density)
pins: 1 REF, 2 ~{RESIN} (in), 3 CT (in), 4 GND (power), 5 ~{RESET} (oc), 6 RESET (oe), 7 SENSE (in), 8 VCC (power)

## TL7712ACP
designator U?
Single Supply Voltage Supervisor for 12 V Systems with Programmable Time Delay, 1 Supply Monitored, 0 to 70 degC, 8-pin PDIP (P), Pb-Free (RoHS); Manufacturer: Texas Instruments; PartNumber: TL7712ACP; # of supplies monitored: 1; Iq(Typ)(uA): 1800; Output Driver Type / Reset Output: Active-low, Open-drain, Active-high, Open-drain; Rating: Catalog; Reset Threshold Accuracy(%): 1.9; SubFamily: Supervisor and Reset IC; Threshold Voltage 1 (typ)(Typ)(V): 10.8; VCC(Max)(V): 18; VCC(Min)(V): 3.5; DatasheetVersion: SLVS028I; PackageVersion: revE, Apr-2010; PackageReference: P8; PackageDescription: 8-Pin Plastic Dual-In-Line Package, Row Spacing 7.62 mm, Pitch 2.54 mm; Supplier 1: Digi-Key; Supplier Part Number 1: 296-3250-5-ND; Supplier 2: Farnell; Supplier Part Number 2: 1354774; Supplier 3: Newark; Supplier Part Number 3: 68K5974; Supplier 4: Mouser; Supplier Part Number 4: 595-TL7712ACP; Time Delay(ms): Programmable; Mounting Technology: Through Hole; Code_JEDEC: MS-001-BA; ComponentLink1Description: Datasheet; ComponentLink1URL: http://www.ti.com/general/docs/lit/getliterature.tsp?genericPartNumber=TL7712A&fileType=pdf
footprint P8 (DIP, 8-Leads, Row Spacing 7.62mm, Pitch 2.54mm, Body 9.6x6.4mm)
pins: 1 REF, 2 ~{RESIN} (in), 3 CT (in), 4 GND (power), 5 ~{RESET} (oc), 6 RESET (oe), 7 SENSE (in), 8 VCC (power)

## TL7712ACPE4
designator U?
Single Supply Voltage Supervisor for 12 V Systems with Programmable Time Delay, 1 Supply Monitored, 0 to 70 degC, 8-pin PDIP (P), Pb-Free (RoHS); Manufacturer: Texas Instruments; PartNumber: TL7712ACPE4; # of supplies monitored: 1; Iq(Typ)(uA): 1800; Output Driver Type / Reset Output: Active-low, Open-drain, Active-high, Open-drain; Rating: Catalog; Reset Threshold Accuracy(%): 1.9; SubFamily: Supervisor and Reset IC; Threshold Voltage 1 (typ)(Typ)(V): 10.8; VCC(Max)(V): 18; VCC(Min)(V): 3.5; DatasheetVersion: SLVS028I; PackageVersion: revE, Apr-2010; PackageReference: P8; PackageDescription: 8-Pin Plastic Dual-In-Line Package, Row Spacing 7.62 mm, Pitch 2.54 mm; Supplier 1: Digi-Key; Supplier Part Number 1: TL7712ACPE4-ND; Supplier 2: Newark; Supplier Part Number 2: 37K4596; Supplier 3: Mouser; Supplier Part Number 3: 595-TL7712ACPE4; Time Delay(ms): Programmable; Mounting Technology: Through Hole; Code_JEDEC: MS-001-BA; ComponentLink1Description: Datasheet; ComponentLink1URL: http://www.ti.com/general/docs/lit/getliterature.tsp?genericPartNumber=TL7712A&fileType=pdf
footprint P8 (DIP, 8-Leads, Row Spacing 7.62mm, Pitch 2.54mm, Body 9.6x6.4mm)
pins: 1 REF, 2 ~{RESIN} (in), 3 CT (in), 4 GND (power), 5 ~{RESET} (oc), 6 RESET (oe), 7 SENSE (in), 8 VCC (power)

## TL7712AIDR
designator U?
Single Supply Voltage Supervisor for 12 V Systems with Programmable Time Delay, 1 Supply Monitored, 8-pin SOIC (D), Green (RoHS & no Sb/Br); Manufacturer: Texas Instruments; PartNumber: TL7712AIDR; # of supplies monitored: 1; Iq(Typ)(uA): 1800; Output Driver Type / Reset Output: Active-low, Open-drain, Active-high, Open-drain; Rating: Catalog; Reset Threshold Accuracy(%): 1.9; SubFamily: Supervisor and Reset IC; Threshold Voltage 1 (typ)(Typ)(V): 10.8; VCC(Max)(V): 18; VCC(Min)(V): 3.5; DatasheetVersion: SLVS028I; PackageVersion: revM, Jun-2011; PackageReference: D8; PackageDescription: 8-Pin Plastic Small Outline Integrated Circuit, 4.9 x 3.9 mm, Pitch 1.27 mm Pitch; Supplier 1: Digi-Key; Supplier Part Number 1: 296-28683-2-ND; Supplier 2: Digi-Key; Supplier Part Number 2: 296-28683-1-ND; Supplier 3: Digi-Key; Supplier Part Number 3: 296-28683-6-ND; Supplier 4: Newark; Supplier Part Number 4: 25R0014; Supplier 5: Mouser; Supplier Part Number 5: 595-TL7712AIDR; Time Delay(ms): Programmable; Mounting Technology: Surface Mount; Code_JEDEC: MS-012AA; ComponentLink1Description: Datasheet; ComponentLink1URL: http://www.ti.com/general/docs/lit/getliterature.tsp?genericPartNumber=TL7712A&fileType=pdf
footprint D8_N (SOIC, 8-Leads, Body 4.9x3.9mm, Pitch 1.27mm, IPC Medium Density)
footprint D8_L (SOIC, 8-Leads, Body 4.9x3.9mm, Pitch 1.27mm, IPC High Density)
footprint D8_M (SOIC, 8-Leads, Body 4.9x3.9mm, Pitch 1.27mm, IPC Low Density)
pins: 1 REF, 2 ~{RESIN} (in), 3 CT (in), 4 GND (power), 5 ~{RESET} (oc), 6 RESET (oe), 7 SENSE (in), 8 VCC (power)

## TL7715ACD
designator U?
Single Supply Voltage Supervisor for 15 V Systems with Programmable Time Delay, 1 Supply Monitored, 0 to 70 degC, 8-pin SOIC (D), Green (RoHS & no Sb/Br); Manufacturer: Texas Instruments; PartNumber: TL7715ACD; # of supplies monitored: 1; Iq(Typ)(uA): 1800; Output Driver Type / Reset Output: Active-low, Open-drain, Active-high, Open-drain; Rating: Catalog; Reset Threshold Accuracy(%): 2.2; SubFamily: Supervisor and Reset IC; Threshold Voltage 1 (typ)(Typ)(V): 13.5; VCC(Max)(V): 18; VCC(Min)(V): 3.5; DatasheetVersion: SLVS028I; PackageVersion: revM, Jun-2011; PackageReference: D8; PackageDescription: 8-Pin Plastic Small Outline Integrated Circuit, 4.9 x 3.9 mm, Pitch 1.27 mm Pitch; Supplier 1: Digi-Key; Supplier Part Number 1: 296-3251-5-ND; Supplier 2: Newark; Supplier Part Number 2: 76C9362; Supplier 3: Mouser; Supplier Part Number 3: 595-TL7715ACD; Time Delay(ms): Programmable; Mounting Technology: Surface Mount; Code_JEDEC: MS-012AA; ComponentLink1Description: Datasheet; ComponentLink1URL: http://www.ti.com/general/docs/lit/getliterature.tsp?genericPartNumber=TL7715A&fileType=pdf
footprint D8_N (SOIC, 8-Leads, Body 4.9x3.9mm, Pitch 1.27mm, IPC Medium Density)
footprint D8_L (SOIC, 8-Leads, Body 4.9x3.9mm, Pitch 1.27mm, IPC High Density)
footprint D8_M (SOIC, 8-Leads, Body 4.9x3.9mm, Pitch 1.27mm, IPC Low Density)
pins: 1 REF, 2 ~{RESIN} (in), 3 CT (in), 4 GND (power), 5 ~{RESET} (oc), 6 RESET (oe), 7 SENSE (in), 8 VCC (power)

## TL7715ACDE4
designator U?
Single Supply Voltage Supervisor for 15 V Systems with Programmable Time Delay, 1 Supply Monitored, 0 to 70 degC, 8-pin SOIC (D), Green (RoHS & no Sb/Br); Manufacturer: Texas Instruments; PartNumber: TL7715ACDE4; # of supplies monitored: 1; Iq(Typ)(uA): 1800; Output Driver Type / Reset Output: Active-low, Open-drain, Active-high, Open-drain; Rating: Catalog; Reset Threshold Accuracy(%): 2.2; SubFamily: Supervisor and Reset IC; Threshold Voltage 1 (typ)(Typ)(V): 13.5; VCC(Max)(V): 18; VCC(Min)(V): 3.5; DatasheetVersion: SLVS028I; PackageVersion: revM, Jun-2011; PackageReference: D8; PackageDescription: 8-Pin Plastic Small Outline Integrated Circuit, 4.9 x 3.9 mm, Pitch 1.27 mm Pitch; Supplier 1: Digi-Key; Supplier Part Number 1: TL7715ACDE4-ND; Supplier 2: Mouser; Supplier Part Number 2: 595-TL7715ACDE4; Time Delay(ms): Programmable; Mounting Technology: Surface Mount; Code_JEDEC: MS-012AA; ComponentLink1Description: Datasheet; ComponentLink1URL: http://www.ti.com/general/docs/lit/getliterature.tsp?genericPartNumber=TL7715A&fileType=pdf
footprint D8_N (SOIC, 8-Leads, Body 4.9x3.9mm, Pitch 1.27mm, IPC Medium Density)
footprint D8_L (SOIC, 8-Leads, Body 4.9x3.9mm, Pitch 1.27mm, IPC High Density)
footprint D8_M (SOIC, 8-Leads, Body 4.9x3.9mm, Pitch 1.27mm, IPC Low Density)
pins: 1 REF, 2 ~{RESIN} (in), 3 CT (in), 4 GND (power), 5 ~{RESET} (oc), 6 RESET (oe), 7 SENSE (in), 8 VCC (power)

## TL7715ACDG4
designator U?
Single Supply Voltage Supervisor for 15 V Systems with Programmable Time Delay, 1 Supply Monitored, 0 to 70 degC, 8-pin SOIC (D), Green (RoHS & no Sb/Br); Manufacturer: Texas Instruments; PartNumber: TL7715ACDG4; # of supplies monitored: 1; Iq(Typ)(uA): 1800; Output Driver Type / Reset Output: Active-low, Open-drain, Active-high, Open-drain; Rating: Catalog; Reset Threshold Accuracy(%): 2.2; SubFamily: Supervisor and Reset IC; Threshold Voltage 1 (typ)(Typ)(V): 13.5; VCC(Max)(V): 18; VCC(Min)(V): 3.5; DatasheetVersion: SLVS028I; PackageVersion: revM, Jun-2011; PackageReference: D8; PackageDescription: 8-Pin Plastic Small Outline Integrated Circuit, 4.9 x 3.9 mm, Pitch 1.27 mm Pitch; Supplier 1: Digi-Key; Supplier Part Number 1: TL7715ACDG4-ND; Supplier 2: Newark; Supplier Part Number 2: 41M5804; Supplier 3: Mouser; Supplier Part Number 3: 595-TL7715ACDG4; Time Delay(ms): Programmable; Mounting Technology: Surface Mount; Code_JEDEC: MS-012AA; ComponentLink1Description: Datasheet; ComponentLink1URL: http://www.ti.com/general/docs/lit/getliterature.tsp?genericPartNumber=TL7715A&fileType=pdf
footprint D8_N (SOIC, 8-Leads, Body 4.9x3.9mm, Pitch 1.27mm, IPC Medium Density)
footprint D8_L (SOIC, 8-Leads, Body 4.9x3.9mm, Pitch 1.27mm, IPC High Density)
footprint D8_M (SOIC, 8-Leads, Body 4.9x3.9mm, Pitch 1.27mm, IPC Low Density)
pins: 1 REF, 2 ~{RESIN} (in), 3 CT (in), 4 GND (power), 5 ~{RESET} (oc), 6 RESET (oe), 7 SENSE (in), 8 VCC (power)

## TL7715ACP
designator U?
Single Supply Voltage Supervisor for 15 V Systems with Programmable Time Delay, 1 Supply Monitored, 0 to 70 degC, 8-pin PDIP (P), Pb-Free (RoHS); Manufacturer: Texas Instruments; PartNumber: TL7715ACP; # of supplies monitored: 1; Iq(Typ)(uA): 1800; Output Driver Type / Reset Output: Active-low, Open-drain, Active-high, Open-drain; Rating: Catalog; Reset Threshold Accuracy(%): 2.2; SubFamily: Supervisor and Reset IC; Threshold Voltage 1 (typ)(Typ)(V): 13.5; VCC(Max)(V): 18; VCC(Min)(V): 3.5; DatasheetVersion: SLVS028I; PackageVersion: revE, Apr-2010; PackageReference: P8; PackageDescription: 8-Pin Plastic Dual-In-Line Package, Row Spacing 7.62 mm, Pitch 2.54 mm; Supplier 1: Digi-Key; Supplier Part Number 1: 296-3252-5-ND; Supplier 2: Farnell; Supplier Part Number 2: 1652464; Supplier 3: Newark; Supplier Part Number 3: 67K1284; Supplier 4: Mouser; Supplier Part Number 4: 595-TL7715ACP; Time Delay(ms): Programmable; Mounting Technology: Through Hole; Code_JEDEC: MS-001-BA; ComponentLink1Description: Datasheet; ComponentLink1URL: http://www.ti.com/general/docs/lit/getliterature.tsp?genericPartNumber=TL7715A&fileType=pdf
footprint P8 (DIP, 8-Leads, Row Spacing 7.62mm, Pitch 2.54mm, Body 9.6x6.4mm)
pins: 1 REF, 2 ~{RESIN} (in), 3 CT (in), 4 GND (power), 5 ~{RESET} (oc), 6 RESET (oe), 7 SENSE (in), 8 VCC (power)

## TL7715ACPE4
designator U?
Single Supply Voltage Supervisor for 15 V Systems with Programmable Time Delay, 1 Supply Monitored, 0 to 70 degC, 8-pin PDIP (P), Pb-Free (RoHS); Manufacturer: Texas Instruments; PartNumber: TL7715ACPE4; # of supplies monitored: 1; Iq(Typ)(uA): 1800; Output Driver Type / Reset Output: Active-low, Open-drain, Active-high, Open-drain; Rating: Catalog; Reset Threshold Accuracy(%): 2.2; SubFamily: Supervisor and Reset IC; Threshold Voltage 1 (typ)(Typ)(V): 13.5; VCC(Max)(V): 18; VCC(Min)(V): 3.5; DatasheetVersion: SLVS028I; PackageVersion: revE, Apr-2010; PackageReference: P8; PackageDescription: 8-Pin Plastic Dual-In-Line Package, Row Spacing 7.62 mm, Pitch 2.54 mm; Supplier 1: Digi-Key; Supplier Part Number 1: TL7715ACPE4-ND; Supplier 2: Newark; Supplier Part Number 2: 63K6537; Supplier 3: Mouser; Supplier Part Number 3: 595-TL7715ACPE4; Time Delay(ms): Programmable; Mounting Technology: Through Hole; Code_JEDEC: MS-001-BA; ComponentLink1Description: Datasheet; ComponentLink1URL: http://www.ti.com/general/docs/lit/getliterature.tsp?genericPartNumber=TL7715A&fileType=pdf
footprint P8 (DIP, 8-Leads, Row Spacing 7.62mm, Pitch 2.54mm, Body 9.6x6.4mm)
pins: 1 REF, 2 ~{RESIN} (in), 3 CT (in), 4 GND (power), 5 ~{RESET} (oc), 6 RESET (oe), 7 SENSE (in), 8 VCC (power)

## TL7733BCD
designator U?
Single Supply-Voltage Supervisor, 1 Supply Monitored, 0 to 70 degC, 8-pin SOIC (D), Green (RoHS & no Sb/Br); Manufacturer: Texas Instruments; PartNumber: TL7733BCD; # of supplies monitored: 1; Iq(Typ)(uA): 1800; Output Driver Type / Reset Output: Active-low, Open-drain, Active-high, Open-drain; Rating: Catalog; Reset Threshold Accuracy(%): 2.6; SubFamily: Supervisor and Reset IC; Threshold Voltage 1 (typ)(Typ)(V): 3.08; Time Delay(ms): Programmable; VCC(Max)(V): 18; VCC(Min)(V): 3.6; DatasheetVersion: SLVS037M; PackageVersion: revM, Jun-2011; PackageReference: D8; PackageDescription: 8-Pin Plastic Small Outline Integrated Circuit, 4.9 x 3.9 mm, Pitch 1.27 mm Pitch; Supplier 1: Digi-Key; Supplier Part Number 1: 296-34313-5-ND; Supplier 2: Newark; Supplier Part Number 2: 76C9370; Supplier 3: Mouser; Supplier Part Number 3: 595-TL7733BCD; Mounting Technology: Surface Mount; Code_JEDEC: MS-012AA; ComponentLink1Description: Datasheet; ComponentLink1URL: http://www.ti.com/general/docs/lit/getliterature.tsp?genericPartNumber=TL7733B&fileType=pdf
footprint D8_N (SOIC, 8-Leads, Body 4.9x3.9mm, Pitch 1.27mm, IPC Medium Density)
footprint D8_L (SOIC, 8-Leads, Body 4.9x3.9mm, Pitch 1.27mm, IPC High Density)
footprint D8_M (SOIC, 8-Leads, Body 4.9x3.9mm, Pitch 1.27mm, IPC Low Density)
pins: 1 REF, 2 ~{RESIN} (in), 3 CT (in), 4 GND (power), 5 ~{RESET} (oc), 6 RESET (oe), 7 SENSE (in), 8 VCC (power)

## TL7733BCDE4
designator U?
Single Supply-Voltage Supervisor, 1 Supply Monitored, 0 to 70 degC, 8-pin SOIC (D), Green (RoHS & no Sb/Br); Manufacturer: Texas Instruments; PartNumber: TL7733BCDE4; # of supplies monitored: 1; Iq(Typ)(uA): 1800; Output Driver Type / Reset Output: Active-low, Open-drain, Active-high, Open-drain; Rating: Catalog; Reset Threshold Accuracy(%): 2.6; SubFamily: Supervisor and Reset IC; Threshold Voltage 1 (typ)(Typ)(V): 3.08; Time Delay(ms): Programmable; VCC(Max)(V): 18; VCC(Min)(V): 3.6; DatasheetVersion: SLVS037M; PackageVersion: revM, Jun-2011; PackageReference: D8; PackageDescription: 8-Pin Plastic Small Outline Integrated Circuit, 4.9 x 3.9 mm, Pitch 1.27 mm Pitch; Supplier 1: Digi-Key; Supplier Part Number 1: TL7733BCDE4-ND; Supplier 2: Newark; Supplier Part Number 2: 37K4603; Supplier 3: Mouser; Supplier Part Number 3: 595-TL7733BCDE4; Mounting Technology: Surface Mount; Code_JEDEC: MS-012AA; ComponentLink1Description: Datasheet; ComponentLink1URL: http://www.ti.com/general/docs/lit/getliterature.tsp?genericPartNumber=TL7733B&fileType=pdf
footprint D8_N (SOIC, 8-Leads, Body 4.9x3.9mm, Pitch 1.27mm, IPC Medium Density)
footprint D8_L (SOIC, 8-Leads, Body 4.9x3.9mm, Pitch 1.27mm, IPC High Density)
footprint D8_M (SOIC, 8-Leads, Body 4.9x3.9mm, Pitch 1.27mm, IPC Low Density)
pins: 1 REF, 2 ~{RESIN} (in), 3 CT (in), 4 GND (power), 5 ~{RESET} (oc), 6 RESET (oe), 7 SENSE (in), 8 VCC (power)

## TL7733BCDG4
designator U?
Single Supply-Voltage Supervisor, 1 Supply Monitored, 0 to 70 degC, 8-pin SOIC (D), Green (RoHS & no Sb/Br); Manufacturer: Texas Instruments; PartNumber: TL7733BCDG4; # of supplies monitored: 1; Iq(Typ)(uA): 1800; Output Driver Type / Reset Output: Active-low, Open-drain, Active-high, Open-drain; Rating: Catalog; Reset Threshold Accuracy(%): 2.6; SubFamily: Supervisor and Reset IC; Threshold Voltage 1 (typ)(Typ)(V): 3.08; Time Delay(ms): Programmable; VCC(Max)(V): 18; VCC(Min)(V): 3.6; DatasheetVersion: SLVS037M; PackageVersion: revM, Jun-2011; PackageReference: D8; PackageDescription: 8-Pin Plastic Small Outline Integrated Circuit, 4.9 x 3.9 mm, Pitch 1.27 mm Pitch; Supplier 1: Digi-Key; Supplier Part Number 1: TL7733BCDG4-ND; Supplier 2: Newark; Supplier Part Number 2: 41M5809; Supplier 3: Mouser; Supplier Part Number 3: 595-TL7733BCDG4; Mounting Technology: Surface Mount; Code_JEDEC: MS-012AA; ComponentLink1Description: Datasheet; ComponentLink1URL: http://www.ti.com/general/docs/lit/getliterature.tsp?genericPartNumber=TL7733B&fileType=pdf
footprint D8_N (SOIC, 8-Leads, Body 4.9x3.9mm, Pitch 1.27mm, IPC Medium Density)
footprint D8_L (SOIC, 8-Leads, Body 4.9x3.9mm, Pitch 1.27mm, IPC High Density)
footprint D8_M (SOIC, 8-Leads, Body 4.9x3.9mm, Pitch 1.27mm, IPC Low Density)
pins: 1 REF, 2 ~{RESIN} (in), 3 CT (in), 4 GND (power), 5 ~{RESET} (oc), 6 RESET (oe), 7 SENSE (in), 8 VCC (power)

## TL7733BCDR
designator U?
Single Supply-Voltage Supervisor, 1 Supply Monitored, 0 to 70 degC, 8-pin SOIC (D), Green (RoHS & no Sb/Br); Manufacturer: Texas Instruments; PartNumber: TL7733BCDR; # of supplies monitored: 1; Iq(Typ)(uA): 1800; Output Driver Type / Reset Output: Active-low, Open-drain, Active-high, Open-drain; Rating: Catalog; Reset Threshold Accuracy(%): 2.6; SubFamily: Supervisor and Reset IC; Threshold Voltage 1 (typ)(Typ)(V): 3.08; Time Delay(ms): Programmable; VCC(Max)(V): 18; VCC(Min)(V): 3.6; DatasheetVersion: SLVS037M; PackageVersion: revM, Jun-2011; PackageReference: D8; PackageDescription: 8-Pin Plastic Small Outline Integrated Circuit, 4.9 x 3.9 mm, Pitch 1.27 mm Pitch; Supplier 1: Digi-Key; Supplier Part Number 1: 296-12952-2-ND; Supplier 2: Digi-Key; Supplier Part Number 2: 296-12952-1-ND; Supplier 3: Newark; Supplier Part Number 3: 76C9371; Supplier 4: Mouser; Supplier Part Number 4: 595-TL7733BCDR; Mounting Technology: Surface Mount; Code_JEDEC: MS-012AA; ComponentLink1Description: Datasheet; ComponentLink1URL: http://www.ti.com/general/docs/lit/getliterature.tsp?genericPartNumber=TL7733B&fileType=pdf
footprint D8_N (SOIC, 8-Leads, Body 4.9x3.9mm, Pitch 1.27mm, IPC Medium Density)
footprint D8_L (SOIC, 8-Leads, Body 4.9x3.9mm, Pitch 1.27mm, IPC High Density)
footprint D8_M (SOIC, 8-Leads, Body 4.9x3.9mm, Pitch 1.27mm, IPC Low Density)
pins: 1 REF, 2 ~{RESIN} (in), 3 CT (in), 4 GND (power), 5 ~{RESET} (oc), 6 RESET (oe), 7 SENSE (in), 8 VCC (power)

## TL7733BCDRE4
designator U?
Single Supply-Voltage Supervisor, 1 Supply Monitored, 0 to 70 degC, 8-pin SOIC (D), Green (RoHS & no Sb/Br); Manufacturer: Texas Instruments; PartNumber: TL7733BCDRE4; # of supplies monitored: 1; Iq(Typ)(uA): 1800; Output Driver Type / Reset Output: Active-low, Open-drain, Active-high, Open-drain; Rating: Catalog; Reset Threshold Accuracy(%): 2.6; SubFamily: Supervisor and Reset IC; Threshold Voltage 1 (typ)(Typ)(V): 3.08; Time Delay(ms): Programmable; VCC(Max)(V): 18; VCC(Min)(V): 3.6; DatasheetVersion: SLVS037M; PackageVersion: revM, Jun-2011; PackageReference: D8; PackageDescription: 8-Pin Plastic Small Outline Integrated Circuit, 4.9 x 3.9 mm, Pitch 1.27 mm Pitch; Supplier 1: Digi-Key; Supplier Part Number 1: TL7733BCDRE4-ND; Supplier 2: Newark; Supplier Part Number 2: 37K4604; Supplier 3: Mouser; Supplier Part Number 3: 595-TL7733BCDRE4; Mounting Technology: Surface Mount; Code_JEDEC: MS-012AA; ComponentLink1Description: Datasheet; ComponentLink1URL: http://www.ti.com/general/docs/lit/getliterature.tsp?genericPartNumber=TL7733B&fileType=pdf
footprint D8_N (SOIC, 8-Leads, Body 4.9x3.9mm, Pitch 1.27mm, IPC Medium Density)
footprint D8_L (SOIC, 8-Leads, Body 4.9x3.9mm, Pitch 1.27mm, IPC High Density)
footprint D8_M (SOIC, 8-Leads, Body 4.9x3.9mm, Pitch 1.27mm, IPC Low Density)
pins: 1 REF, 2 ~{RESIN} (in), 3 CT (in), 4 GND (power), 5 ~{RESET} (oc), 6 RESET (oe), 7 SENSE (in), 8 VCC (power)